# Altium footprint library PcbLib2.PcbLib: 1 footprints
Each footprint in its own frame and in the unit in brackets; x right, y up, seen from the top. Pads: shape width x height; smd on the part's side, far side on the other; paste and mask are expansions set on the pad; w line width, h text height; cw(c..) or ccw(c..) is an arc to the next point about the centre after c.
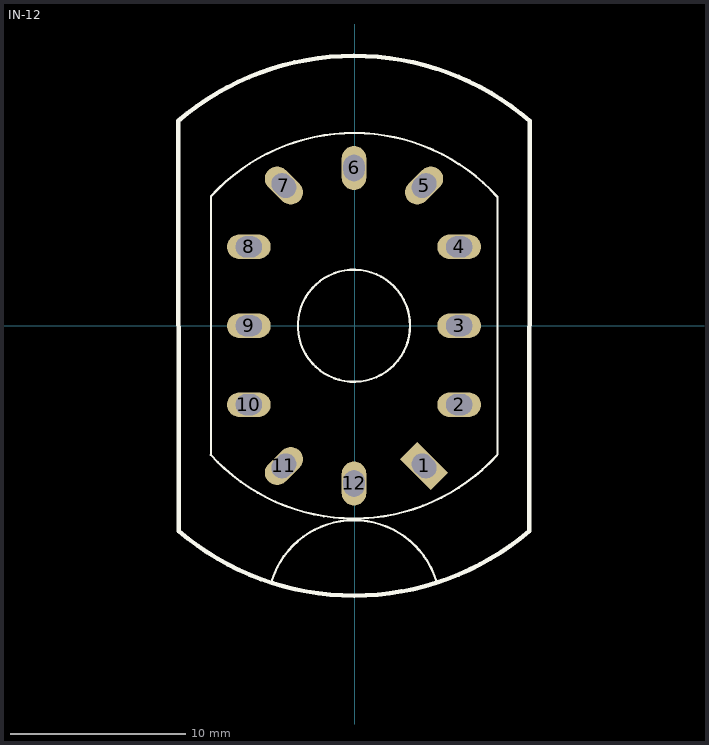
[diagram p0: the footprint, top view; thin cyan lines are the x and y axes]

## IN-12 [mm] "IN-12 Nixie"
height 36
pads (12):
  rect 2.5x1.4 hole 1.2 slot 1.5 at 135 deg rot 135: 1(3.969,-8)
  oval 2.5x1.4 hole 1.2 slot 1.5 at 0 deg: 2(5.969,-4.5) 3(5.969,0) 4(5.969,4.5) 8(-6.031,4.5) 9(-6.031,0) 10(-6.031,-4.5)
  oval 2.5x1.4 hole 1.2 slot 1.5 at 45 deg rot 45: 5(3.969,8) 11(-4.031,-8)
  oval 1.4x2.5 hole 1.2 slot 1.5 at 90 deg: 6(-0.031,9) 12(-0.031,-9)
  oval 2.5x1.4 hole 1.2 slot 1.5 at 135 deg rot 135: 7(-4.031,8)
Top Overlay:
  circle w0.127: c-0.031,0 r3.2
  lines w0.127: -8.199,-7.367 ccw(c-0.031,0) 8.123,-7.384 ; -8.185,-7.353 -8.185,7.383 cw(c-0.031,0) 8.159,7.343 8.159,-7.347 ; -4.706,-14.508 cw(c-0.031,-16) 4.641,-14.498
  lines w0.254: -10.03,-11.722 -10.065,11.682 cw(c-0.031,0) 9.984,11.698 9.969,-11.721 ; -10.018,-11.722 ccw(c-0.031,0) 9.964,-11.715
3D body: height 19, standoff 15, extent -8.382,-2.54 6.858,12.573